# Altium schematic symbol library DM-03S-25C-A-Z.SchLib: 1 symbol
Pins are listed as number, name and electrical type; pins without a type are passive.

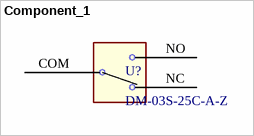
[diagram p0: symbol Component_1]

## Component_1
designator U?, comment DM-03S-25C-A-Z
Roller switch; Manufacturer 1: Zippy; Manufacturer Part Number 1: DM-03S-25C-A-Z
footprint DM-03S-25C-A-Z
pins: COM, NC, NO